# Altium schematic symbol library New Components @ Conti.SchLib: 16 symbols
Pins are listed as number, name and electrical type; pins without a type are passive.

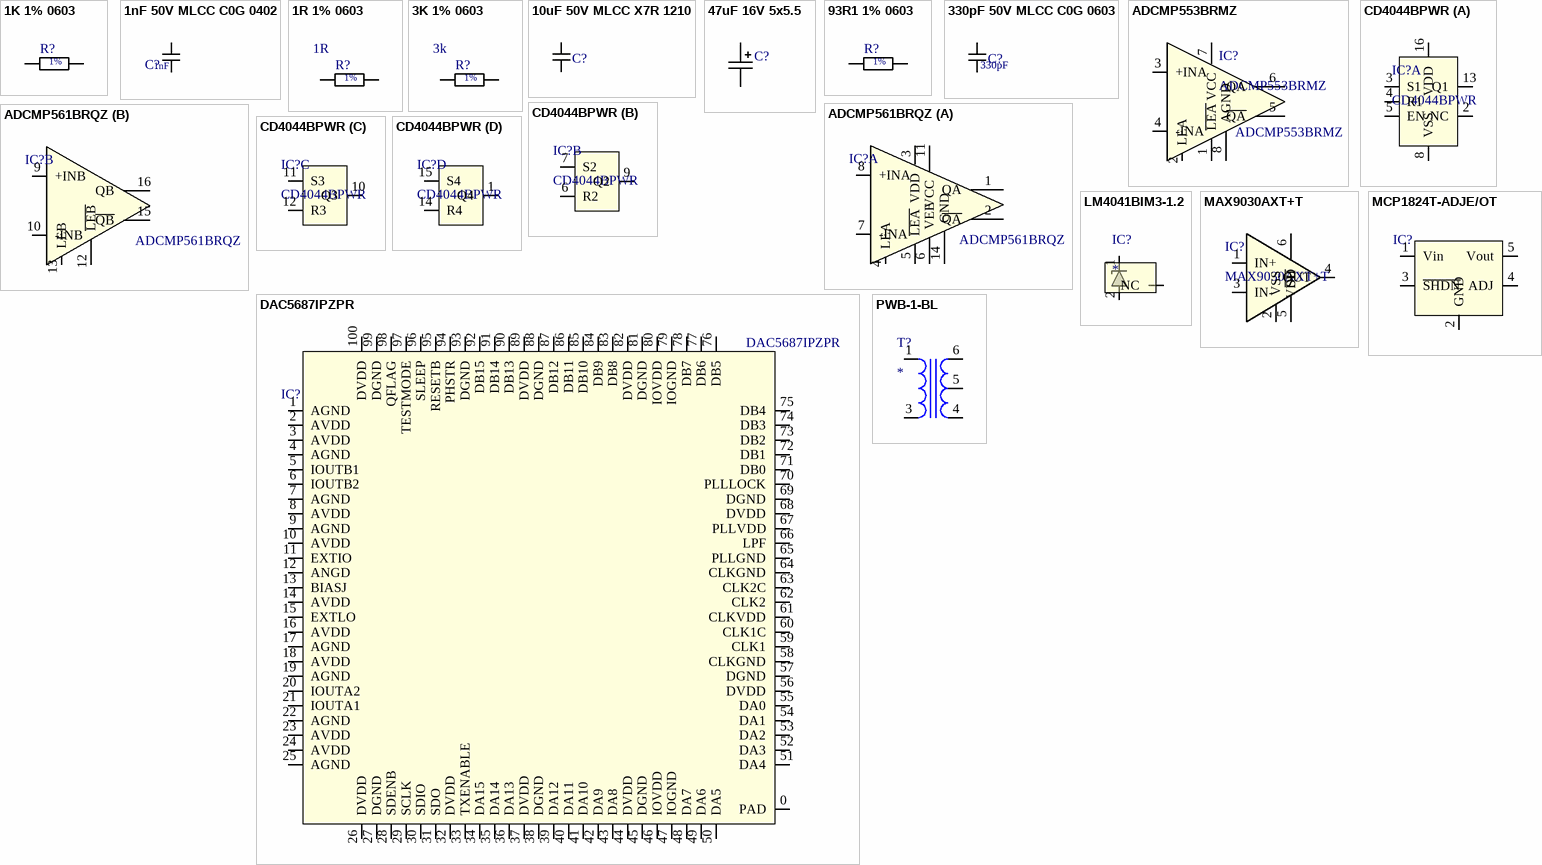
[diagram p0: symbols 1K 1% 0603 to PWB-1-BL]

## 1K 1% 0603
designator R?  (value not drawn)
ComponentLink1Description: Datasheet; Lötbarkeit RoHS: YES; Material RoHS: YES; Part Specification: 1k
footprint 0603RES (Chip Resistor 2-Leads, Body 1,7x0,9mm, IPC High Density)
pins: 1, 2
text: 1%

## 1nF 50V MLCC C0G 0402
designator C?, comment value 1nF  (hidden comment: GRM1555C1H102JA01D)
1nF 50V MLCC C0G 0402; ComponentLink1Description: Datasheet; Lötbarkeit RoHS: YES; Material RoHS: YES; Ordercode: GRM1555C1H102JA01D
footprint 0402CAP (Chip Capacitor, 2-Leads, Body 1,1x0,5mm, IPC High Density)
pins: 1, 2

## 1R 1% 0603
designator R?  Part Specification: 1R
1R 1% 0603; ComponentLink1Description: Datasheet; Lötbarkeit RoHS: YES; Material RoHS: YES
footprint 0603RES (Chip Resistor 2-Leads, Body 1,7x0,9mm, IPC High Density)
pins: 1, 2
text: 1%

## 3K 1% 0603
designator R?  Part Specification: 3k
3K 1% 0603; ComponentLink1Description: Datasheet; Lötbarkeit RoHS: YES; Material RoHS: YES
footprint 0603RES (Chip Resistor 2-Leads, Body 1,7x0,9mm, IPC High Density)
pins: 1, 2
text: 1%

## 10uF 50V MLCC X7R 1210
designator C?  (value not drawn)
ComponentLink1Description: Datasheet; Lötbarkeit RoHS: YES; Material RoHS: YES; Ordercode: 10uF 50V MLCC X7R 1210
footprint CAP1210 (Chip Capacitor, 2-Leads, Body 3.24x2.73mm, IPC Medium Density)
pins: 1, 2

## 47uF 16V 5x5.5
designator C?, comment 865080342006  (value not drawn)
47uF 16V 5x5.5; Part Specification: 47uF/16V; ComponentLink1Description: Datasheet; Lötbarkeit RoHS: YES; Material RoHS: YES; Ordercode: 865080342006
footprint CAP5mm SMD
pins: 1, 2

## 93R1 1% 0603
designator R?
93R1 1% 0603; ComponentLink1Description: Datasheet; Lötbarkeit RoHS: YES; Material RoHS: YES; Part Specification: 93R1
footprint 0603RES (Chip Resistor 2-Leads, Body 1,7x0,9mm, IPC High Density)
pins: 1, 2
text: 1%

## 330pF 50V MLCC C0G 0603
designator C?  Part Specification: 330pF  (hidden comment: 330pF 50V MLCC C0G 0603)
ComponentLink1Description: Datasheet; Lötbarkeit RoHS: YES; Material RoHS: YES; Ordercode: 330pF 50V MLCC C0G 0603
footprint 0603CAP (Chip Capacitor, 2-Leads, Body 1,7x0,9mm, IPC High Density)
pins: 1, 2

## ADCMP553BRMZ
designator IC?
Comparator 500ps; Manufacturer: Analog Devices; Temperature Range: -40°C to +85°C; ComponentLink1Description: Datasheet; Lötbarkeit RoHS: YES; Material RoHS: YES; Ordercode: ADCMP553BRMZ
footprint MSOP-8 (TSOP, 8-Leads, Body 3,00x3,00mm, Pitch 0,65mm, Thermal Pad 1,89.2x1,57.2mm, IPC Medium Density)
pins: 1 ~{LEA} (power), 2 LEA (power), 3 +INA (power), 4 -INA (power), 5 ~{QA} (power), 6 QA (power), 7 VCC (power), 8 AGND (power)

## ADCMP561BRQZ
designator IC?
Dual Comparator 700ps; Manufacturer: Analog Devices; Temperature Range: -40°C to +85°C; ComponentLink1Description: Datasheet; Lötbarkeit RoHS: YES; Material RoHS: YES; Ordercode: ADCMP561BRQZ
footprint QSOP-16
part A pins: 1 QA (power), 2 ~{QA} (power), 3 VDD (power), 4 LEA (power), 5 ~{LEA} (power), 6 VEE (power), 7 -INA (power), 8 +INA (power), 11 VCC (power), 14 GND (power)
part B pins: 9 +INB (power), 10 -INB (power), 12 ~{LEB} (power), 13 LEB (power), 15 ~{QB} (power), 16 QB (power)

## CD4044BPWR
designator IC?
Manufacturer: TI; Ordercode: CD4044BPWR; Temperature Range: -55°C to +125°C; ComponentLink1Description: Datasheet; Lötbarkeit RoHS: YES; Material RoHS: YES
footprint TSOP-16 (TSOP, 16-Leads, Body 5,00x4,40mm, Pitch 0,65mm, IPC Medium Density)
part A pins: 2 NC, 3 S1, 4 R1, 5 EN, 8 VSS, 13 Q1, 16 VDD
part B pins: 6 R2, 7 S2, 9 Q2
part C pins: 10 Q3, 11 S3, 12 R3
part D pins: 1 Q4, 14 R4, 15 S4

## DAC5687IPZPR
designator IC?
Manufacturer: TI; ComponentLink1Description: Datasheet; Lötbarkeit RoHS: YES; Material RoHS: YES; Temperature Range: -40°C to +85°C; Ordercode: DAC5687IPZPR
footprint TQFP-100 Thermal Pad (TSQFP, 100-Leads, Body 14.00x14.00mm, Pitch 0.50mm, Thermal Pad 6.20x6.20mm, IPC Medium Density)
pins: 0 PAD, 1 AGND, 2 AVDD, 3 AVDD, 4 AGND, 5 IOUTB1, 6 IOUTB2, 7 AGND, 8 AVDD, 9 AGND, 10 AVDD, 11 EXTIO, 12 ANGD, 13 BIASJ, 14 AVDD, 15 EXTLO, 16 AVDD, 17 AGND, 18 AVDD, 19 AGND, 20 IOUTA2, 21 IOUTA1, 22 AGND, 23 AVDD, 24 AVDD, 25 AGND, 26 DVDD, 27 DGND, 28 SDENB, 29 SCLK, 30 SDIO, 31 SDO, 32 DVDD, 33 TXENABLE, 34 DA15, 35 DA14, 36 DA13, 37 DVDD, 38 DGND, 39 DA12, 40 DA11, 41 DA10, 42 DA9, 43 DA8, 44 DVDD, 45 DGND, 46 IOVDD, 47 IOGND, 48 DA7, 49 DA6, 50 DA5, 51 DA4, 52 DA3, 53 DA2, 54 DA1, 55 DA0, 56 DVDD, 57 DGND, 58 CLKGND, 59 CLK1, 60 CLK1C, 61 CLKVDD, 62 CLK2, 63 CLK2C, 64 CLKGND, 65 PLLGND, 66 LPF, 67 PLLVDD, 68 DVDD, 69 DGND, 70 PLLLOCK, 71 DB0, 72 DB1, 73 DB2, 74 DB3, 75 DB4, 76 DB5, 77 DB6, 78 DB7, 79 IOGND, 80 IOVDD, 81 DGND, 82 DVDD, 83 DB8, 84 DB9, 85 DB10, 86 DB11, 87 DB12, 88 DGND, 89 DVDD, 90 DB13, 91 DB14, 92 DB15, 93 DGND, 94 PHSTR, 95 RESETB, 96 SLEEP, 97 TESTMODE, 98 QFLAG, 99 DGND, 100 DVDD

## LM4041BIM3-1.2
designator IC?
Manufacturer: TI; Ordercode: LM4041BIM3-1.2; ComponentLink1Description: Datasheet; Lötbarkeit RoHS: YES; Material RoHS: YES; Temperature Range: -40°C to +85°C
footprint SOT-23 (SOT23, 3-Leads, Body 2,90x2,30mm, Pitch 0,95mm, IPC Medium Density)
pins: 1, 2, 3 NC

## MAX9030AXT+T
designator IC?
Manufacturer: Maxim; Ordercode: MAX9030AXT+T; Temperature Range: -40°C to +125°C; ComponentLink1Description: Datasheet; Lötbarkeit RoHS: YES; Material RoHS: YES
footprint SOT23-6 (SOT23, 6-Leads, Body 2,90x2,70mm, Pitch 0,95mm, IPC Medium Density)
pins: 1 IN+, 2 VSS, 3 IN-, 4 OUT, 5 ~{SH}, 6 VDD

## MCP1824T-ADJE/OT
designator IC?  (value not drawn)
Manufacturer: Microchip; Ordercode: MCP1824T-ADJE/OT; Temperature Range: -40°C to +125°C; ComponentLink1Description: Datasheet; Lötbarkeit RoHS: YES; Material RoHS: YES
footprint SOT95P280X145-5N (SOT23, 5-Leads, Body 2,90x2,80mm, Pitch 0,95mm, IPC Medium Density)
pins: 1 Vin, 2 GND, 3 ~{SHDN}, 4 ADJ, 5 Vout

## PWB-1-BL
designator T?
1:1 425MHz 22uH; Manufacturer: Coilcraft; Part Specification: 1:1 22uH 250mA 300V; Ordercode: PWB-1-BL; ComponentLink1Description: Datasheet; Lötbarkeit RoHS: YES; Material RoHS: YES; Temperature Range: -40°C to +85°C
footprint RF_Transformers PWB-1-BL
pins: 1, 2 hidden, 3, 4, 5, 6